# Altium schematic symbol library OPA137.SchLib: 1 symbol
Pins are listed as number, name and electrical type; pins without a type are passive.

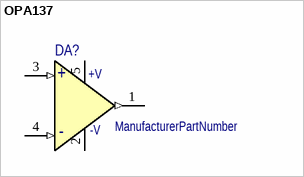
[diagram p0: symbol OPA137]

## OPA137
designator DA?  (value not drawn)
ManufacturerPartNumber: ManufacturerPartNumber
pins: 1 OUT (out), 2 -Vs (power), 3 (in), 4 (in), 5 +Vs (power)
text: +; +V; -V; -